# Altium schematic symbol library SCH - COMPARATOR - MICROCHIP MCP6566 SOT23 SC70.SCHLIB: 1 symbol
Pins are listed as number, name and electrical type; pins without a type are passive.

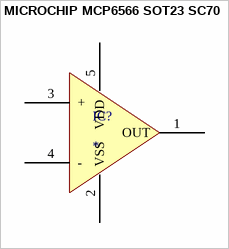
[diagram p0: symbol MICROCHIP MCP6566 SOT23 SC70]

## MICROCHIP MCP6566 SOT23 SC70
designator IC?
pins: 1 OUT, 2 VSS (power), 3 +, 4 -, 5 VDD (power)